# Altium schematic symbol library breeze_design_library.SchLib: 28 symbols
Pins are listed as number, name and electrical type; pins without a type are passive.

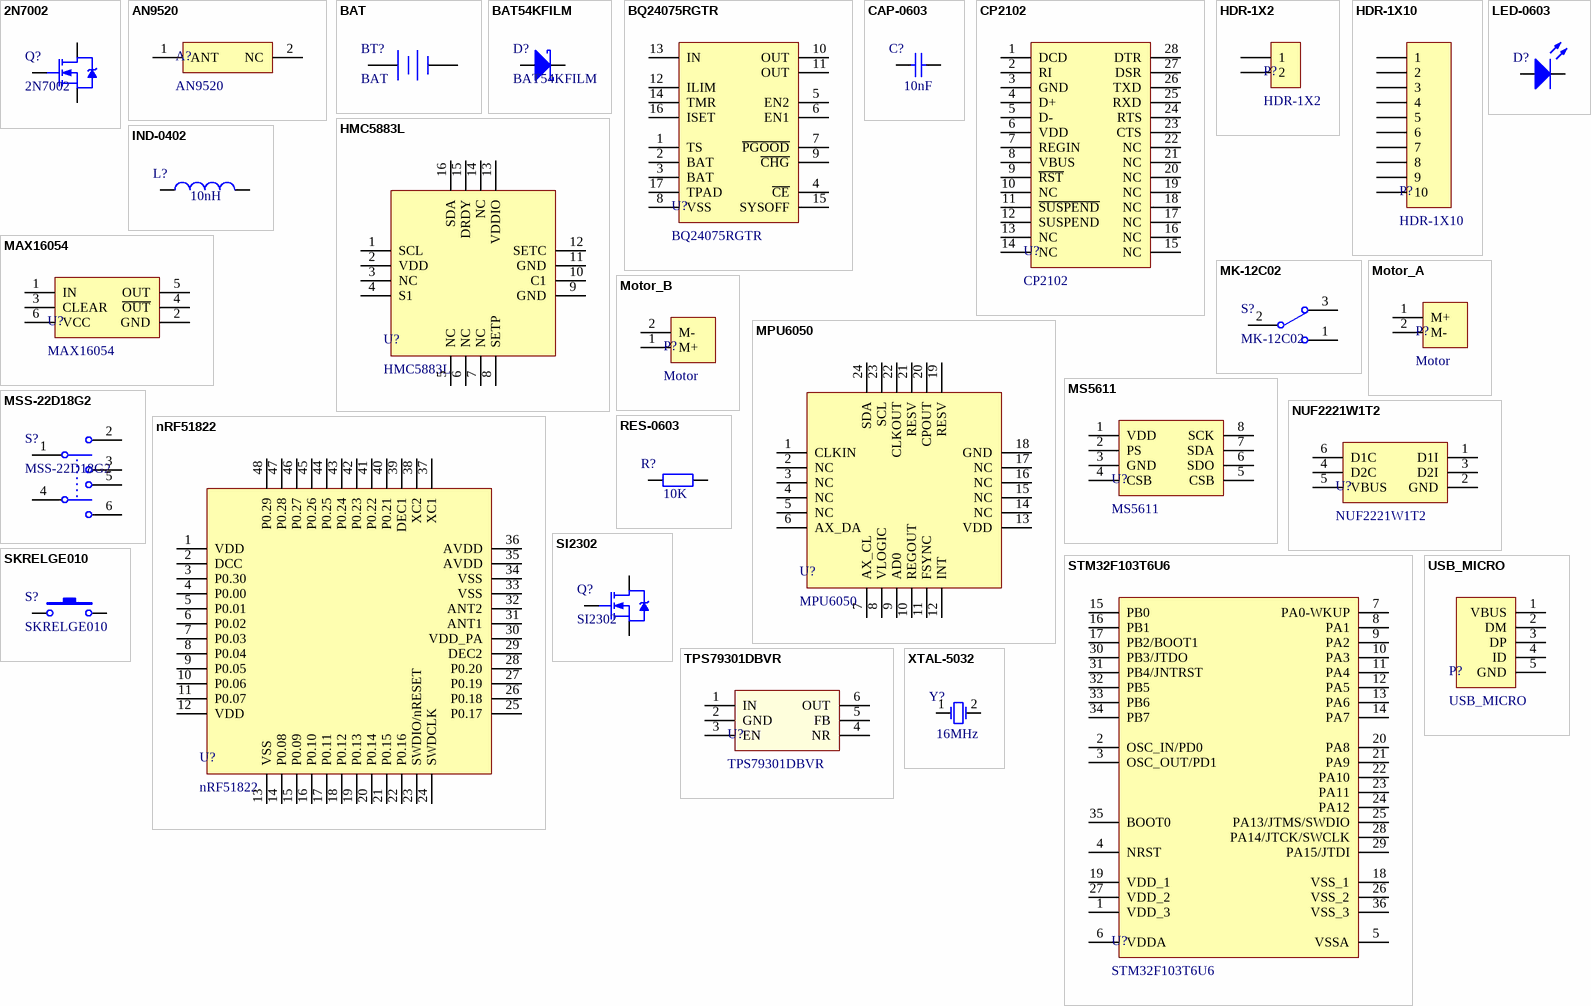
[diagram p0: symbols 2N7002 to XTAL-5032]

## 2N7002
designator Q?
N-Channel Enhancement Mode Field Effect Transistor
footprint SOT-23 (SOT23, 3-Leads, Body 2.9x1.3mm, Pitch 0.95mm, Lead Span 2.5mm, IPC Low Density)
pins: 1 G, 2 S, 3 D

## AN9520
designator A?
2.4GHz Wireless Communication Antenna
footprint AN9520
pins: 1 ANT, 2 NC

## BAT
designator BT?
Battery
footprint HDR-1X2
pins: 1 +, 2 -

## BAT54KFILM
designator D?
Schottky Diode
footprint SOD-523
pins: 1 A, 2 K

## BQ24075RGTR
designator U?
1.5-A USB-Friendly Li-Ion Battery Charger and Power-Path Management IC
footprint VQFN-16 (QFN, 16-Leads, Body 3.00x3.00mm, Pitch 0.50mm, Thermal Pad 1.75x1.75mm, IPC Medium Density)
pins: 1 TS, 2 BAT, 3 BAT, 4 ~{CE}, 5 EN2, 6 EN1, 7 ~{PGOOD}, 8 VSS, 9 ~{CHG}, 10 OUT, 11 OUT, 12 ILIM, 13 IN, 14 TMR, 15 SYSOFF, 16 ISET, 17 TPAD

## CAP-0603
designator C?  value 10nF  (hidden comment: CAP-0603)
Capacitor
footprint SMD-0603
pins: 1, 2

## CP2102
designator U?
Highly-integrated USB-to-UART Bridge Controller
footprint QFN-28 (QFN, 28-Leads, Body 5.00x5.00mm, Pitch 0.50mm, Thermal Pad 3.13x3.13mm, IPC Medium Density)
pins: 1 DCD, 2 RI, 3 GND, 4 D+, 5 D-, 6 VDD, 7 REGIN, 8 VBUS, 9 ~{RST}, 10 NC, 11 ~{SUSPEND}, 12 SUSPEND, 13 NC, 14 NC, 15 NC, 16 NC, 17 NC, 18 NC, 19 NC, 20 NC, 21 NC, 22 NC, 23 CTS, 24 RTS, 25 RXD, 26 TXD, 27 DSR, 28 DTR

## HDR-1X2
designator P?
Header 1X2
footprint HDR-1X2
pins: 1, 2

## HDR-1X10
designator P?
Header 1X10
footprint HDR-1X10
pins: 1, 2, 3, 4, 5, 6, 7, 8, 9, 10

## HMC5883L
designator U?
3-Axis Digital Compass IC
footprint LPCC-16 (LCC, 16-Pins, Body 3.00x3.00mmx0.90mm, Pitch 0.50mm, IPC Medium Density)
pins: 1 SCL, 2 VDD, 3 NC, 4 S1, 5 NC, 6 NC, 7 NC, 8 SETP, 9 GND, 10 C1, 11 GND, 12 SETC, 13 VDDIO, 14 NC, 15 DRDY, 16 SDA

## IND-0402
designator L?  value 10nH  (hidden comment: IND-0402)
Inductor
footprint SMD-0402
pins: 1, 2

## LED-0603
designator D?  (value not drawn)
LED
footprint SMD-0603
pins: 1 A, 2 K

## MAX16054
designator U?
On/Off Controller with Debounce and ±15kV ESD Protection
footprint SOT-23-6 (SOT23, 6-Leads, Body 2.9x1.6mm, Pitch 0.95mm, Lead Span 2.7mm, IPC Low Density)
pins: 1 IN, 2 GND, 3 CLEAR, 4 ~{OUT}, 5 OUT, 6 VCC

## MK-12C02
designator S?
SPDT Subminiature Toggle Switch
footprint MK-12C02
pins: 1, 2, 3

## Motor_A
designator P?, comment Motor
Motor Header
footprint HDRM-1X2
pins: 1 M+, 2 M-

## Motor_B
designator P?, comment Motor
Motor Header
footprint HDRM-1X2
pins: 1 M+, 2 M-

## MPU6050
designator U?
6-axis Motion Tracking IC
footprint QFN-24 (QFN, 24-Leads, Body 4.00x4.00mm, Pitch 0.50mm, Thermal Pad 2.85x2.85mm, IPC Medium Density)
pins: 1 CLKIN, 2 NC, 3 NC, 4 NC, 5 NC, 6 AX_DA, 7 AX_CL, 8 VLOGIC, 9 AD0, 10 REGOUT, 11 FSYNC, 12 INT, 13 VDD, 14 NC, 15 NC, 16 NC, 17 NC, 18 GND, 19 RESV, 20 CPOUT, 21 RESV, 22 CLKOUT, 23 SCL, 24 SDA

## MS5611
designator U?
High Resolution Altimeter IC
footprint MS5611
pins: 1 VDD, 2 PS, 3 GND, 4 CSB, 5 CSB, 6 SDO, 7 SDA, 8 SCK

## MSS-22D18G2
designator S?
Double-Pole, Double-Throw Switch
footprint MSS-22D18G2
pins: 1, 2, 3, 4, 5, 6

## nRF51822
designator U?
Multiprotocol Bluetooth 4.0 low energy/2.4 GHz RF SoC
footprint QFN-48 (QFN, 48-Leads, Body 6.00x6.00mm, Pitch 0.40mm, Thermal Pad 4.60x4.60mm, IPC Medium Density)
pins: 1 VDD, 2 DCC, 3 P0.30, 4 P0.00, 5 P0.01, 6 P0.02, 7 P0.03, 8 P0.04, 9 P0.05, 10 P0.06, 11 P0.07, 12 VDD, 13 VSS, 14 P0.08, 15 P0.09, 16 P0.10, 17 P0.11, 18 P0.12, 19 P0.13, 20 P0.14, 21 P0.15, 22 P0.16, 23 SWDIO/nRESET, 24 SWDCLK, 25 P0.17, 26 P0.18, 27 P0.19, 28 P0.20, 29 DEC2, 30 VDD_PA, 31 ANT1, 32 ANT2, 33 VSS, 34 VSS, 35 AVDD, 36 AVDD, 37 XC1, 38 XC2, 39 DEC1, 40 P0.21, 41 P0.22, 42 P0.23, 43 P0.24, 44 P0.25, 45 P0.26, 46 P0.27, 47 P0.28, 48 P0.29

## NUF2221W1T2
designator U?
USB Upstream Terminator  with ESD Protection
footprint SOT-363 (SOT-363, 6-Leads, Body 2.00x2.10mm, Pitch 0.65mm, IPC Medium Density)
pins: 1 D1I, 2 GND, 3 D2I, 4 D2C, 5 VBUS, 6 D1C

## RES-0603
designator R?  value 10K  (hidden comment: RES-0603)
Resistor
footprint SMD-0603
pins: 1, 2

## SI2302
designator Q?
N-Channel Enhancement Mode Field Effect Transistor
footprint SOT-23 (SOT23, 3-Leads, Body 2.9x1.3mm, Pitch 0.95mm, Lead Span 2.5mm, IPC Low Density)
pins: 1 G, 2 S, 3 D

## SKRELGE010
designator S?
Switch
footprint SKRELGE010
pins: 1, 2

## STM32F103T6U6
designator U?
ARM Cortex-M3 MCU
footprint VFQFPN-36 (QFN, 36-Leads, Body 6.13x6.13mm, Pitch 0.5mm, Thermal Pad 3x3mm, IPC Low Density)
pins: 1 VDD_3, 2 OSC_IN/PD0, 3 OSC_OUT/PD1, 4 NRST, 5 VSSA, 6 VDDA, 7 PA0-WKUP, 8 PA1, 9 PA2, 10 PA3, 11 PA4, 12 PA5, 13 PA6, 14 PA7, 15 PB0, 16 PB1, 17 PB2/BOOT1, 18 VSS_1, 19 VDD_1, 20 PA8, 21 PA9, 22 PA10, 23 PA11, 24 PA12, 25 PA13/JTMS/SWDIO, 26 VSS_2, 27 VDD_2, 28 PA14/JTCK/SWCLK, 29 PA15/JTDI, 30 PB3/JTDO, 31 PB4/JNTRST, 32 PB5, 33 PB6, 34 PB7, 35 BOOT0, 36 VSS_3

## TPS79301DBVR
designator U?
200-mA RF Low-Dropout Regulator
footprint SOT-23-6 (SOT23, 6-Leads, Body 2.9x1.6mm, Pitch 0.95mm, Lead Span 2.7mm, IPC Low Density)
pins: 1 IN, 2 GND (power), 3 EN, 4 NR, 5 FB, 6 OUT

## USB_MICRO
designator P?
Micro USB
footprint USB_MICRO
pins: 1 VBUS, 2 DM, 3 DP, 4 ID, 5 GND

## XTAL-5032
designator Y?  value 16MHz  (hidden comment: XTAL-5032)
Passive Crystal Oscillator
footprint SMD-5032
pins: 1 OSC1, 2 OSC2